# Altium schematic symbol library 65503603215303.Schlib: 1 symbol
Pins are listed as number, name and electrical type; pins without a type are passive.

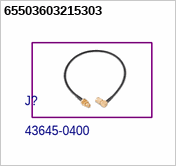
[diagram p0: symbol 65503603215303]

## 65503603215303
designator J?, comment 43645-0400